# Altium footprint library GH1.25.PcbLib: 4 footprints
Each footprint in its own frame and in the unit in brackets; x right, y up, seen from the top. Pads: shape width x height; smd on the part's side, far side on the other; paste and mask are expansions set on the pad; w line width, h text height; cw(c..) or ccw(c..) is an arc to the next point about the centre after c.
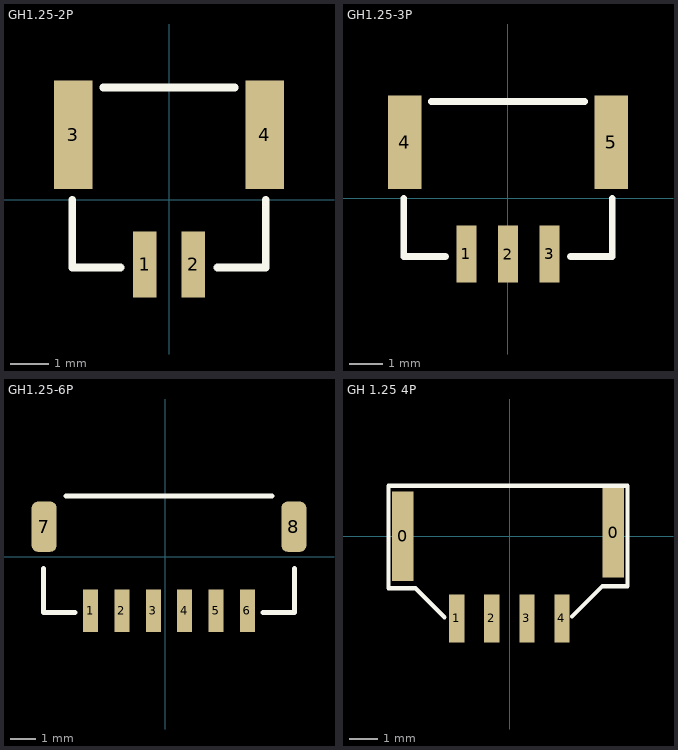
[diagram p0: the footprints below, top view; thin cyan lines are the x and y axes]

## GH1.25-2P [mm]
height 1
pads (4):
  rect 0.6x1.7 smd mask+0.1: 1(-0.625,-1.675) 2(0.625,-1.675)
  rect 1x2.8 smd mask+0.1: 3(-2.475,1.675) 4(2.475,1.675)
Top Overlay:
  lines w0.2: -2.5,0 -2.5,-1.75 -1.25,-1.75 ; -1.7,2.9 1.7,2.9 ; 1.25,-1.75 2.5,-1.75 2.5,0
3D body "502386-0270.stp": height 5.55, standoff -0.01, extent -2.925,-2.6 2.925,2.4

## GH1.25-3P [mm]
height 1
pads (5):
  rect 0.6x1.7 smd mask+0.1: 1(-1.25,-1.675) 2(0,-1.675) 3(1.25,-1.675)
  rect 1x2.8 smd mask+0.1: 4(-3.1,1.675) 5(3.1,1.675)
Top Overlay:
  lines w0.2: -3.125,0 -3.125,-1.75 -1.875,-1.75 ; -2.3,2.9 2.3,2.9 ; 1.875,-1.75 3.125,-1.75 3.125,0
3D body "502386-0370.stp": height 5.55, standoff -0.01, extent -3.55,-2 3.55,3

## GH1.25-6P [mm]
pads (8):
  rect 0.6x1.7 smd mask+0.1: 1(-2.98,-2.156) 2(-1.73,-2.156) 3(-0.48,-2.156) 4(0.77,-2.156) 5(2.02,-2.156) 6(3.27,-2.156)
  rrect50% 1x2 smd mask+0.1: 7(-4.83,1.194) 8(5.12,1.194)
Top Overlay:
  lines w0.2: -4.855,-0.481 -4.855,-2.231 -3.605,-2.231 ; -3.955,2.419 4.245,2.419 ; 3.895,-2.231 5.145,-2.231 5.145,-0.481
3D body "502386-0670.stp": height 5.55, standoff -0.01, extent -5.28,-2.481 5.57,2.519

## GH 1.25 4P [mm]
pads (6):
  rect 0.762x3.2 smd: 0(-3.81,0) 0(3.683,0.127)
  rect 0.54x1.7 smd: 1(-1.892,-2.927) 2(-0.641,-2.927) 3(0.61,-2.927) 4(1.861,-2.927)
Top Overlay:
  lines w0.15: -4.318,1.778 -4.318,-1.85 -3.364,-1.85 -2.328,-2.886 ; -4.318,1.802 4.191,1.802 4.191,-1.778 3.302,-1.778 2.223,-2.857
3D body "GH1.25 4P.STEP": height 4.18, standoff -0.03, extent -4.064,-3.237 4.186,1.713